# Altium footprint library Connector_Wago.PcbLib: 34 footprints (part 2 of 3)
Each footprint in its own frame and in the unit in brackets; x right, y up, seen from the top. Pads: shape width x height; smd on the part's side, far side on the other; paste and mask are expansions set on the pad; w line width, h text height; cw(c..) or ccw(c..) is an arc to the next point about the centre after c.
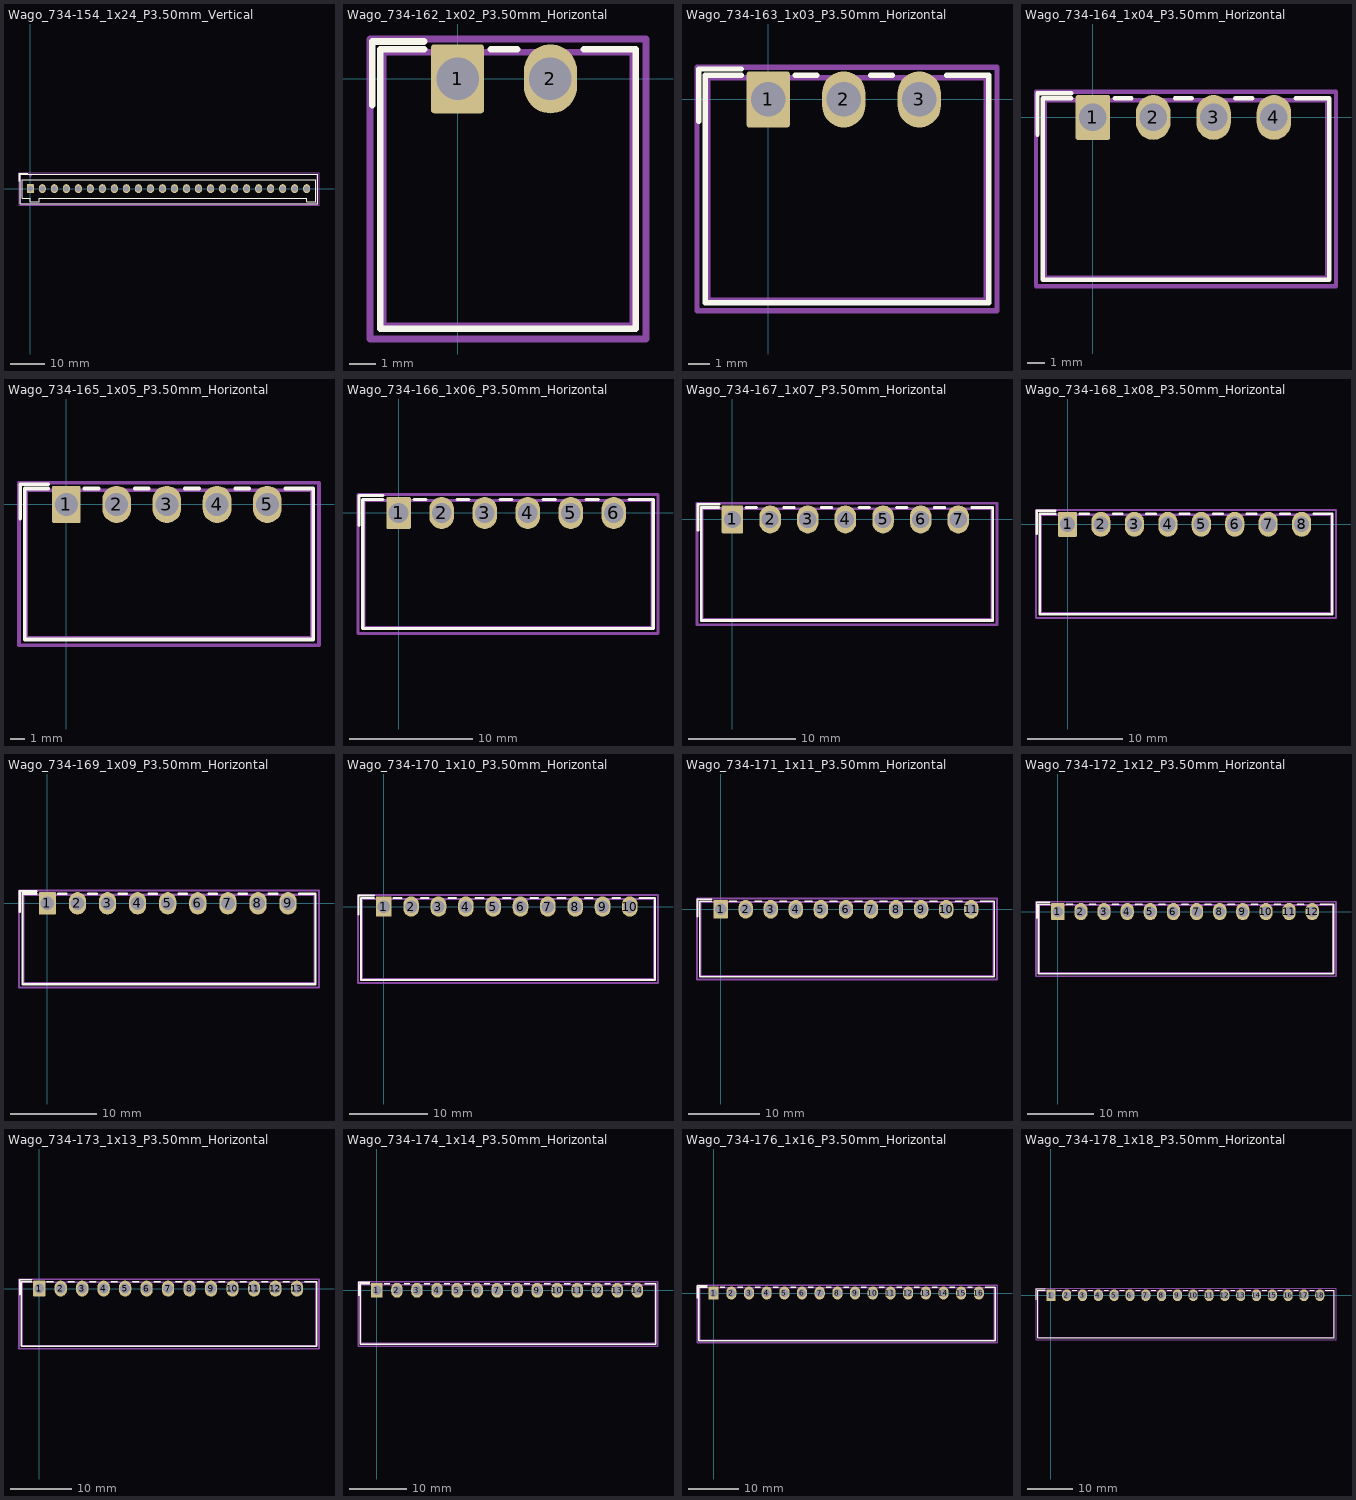
[diagram p1: the footprints below, top view; thin cyan lines are the x and y axes]

## Wago_734-154_1x24_P3.50mm_Vertical [mm]
pads (24):
  rrect12% 2x2.6 hole 1.6: 1(0,0)
  rrect100% 2x2.6 hole 1.6: 2(3.5,0) 3(7,0) 4(10.5,0) 5(14,0) 6(17.5,0) 7(21,0) 8(24.5,0) 9(28,0) 10(31.5,0) 11(35,0) 12(38.5,0) 13(42,0) 14(45.5,0) 15(49,0) 16(52.5,0) 17(56,0) 18(59.5,0) 19(63,0) 20(66.5,0) 21(70,0) 22(73.5,0) 23(77,0) 24(80.5,0)
F.SilkS:
  lines w0.254: -3.21,2.15 -3.21,4.56 -0.8,4.56 ; -2.91,-4.46 83.71,-4.46 83.71,4.26 -2.91,4.26 -2.91,-4.46 ; -2.3,-2.85 0,-2.85 0,-3.85 2.6,-3.85 2.6,-2.85 80.5,-2.85 80.5,-3.85 83.1,-3.85 83.1,2.65 -2.3,2.65 -2.3,-2.85
Top Assembly:
  lines w0.254: -0.5,4.15 0,3.443 0.5,4.15 ; -2.8,-4.35 83.6,-4.35 83.6,4.15 -2.8,4.15 -2.8,-4.35
  text "'.Designator'" at 36.353,-4.49 h1
Top Courtyard:
  lines w0.254: -3.3,-4.85 84.1,-4.85 84.1,4.65 -3.3,4.65 -3.3,-4.85
Top Designator:
  text ".Designator" at 32.782,-0.608 h1.52

## Wago_734-162_1x02_P3.50mm_Horizontal [mm]
pads (2):
  rrect12% 2x2.6 hole 1.6: 1(0,0)
  rrect100% 2x2.6 hole 1.6: 2(3.5,0)
F.SilkS:
  lines w0.254: -3.21,-1 -3.21,1.41 -1.26,1.41 ; -1.26,1.11 -2.91,1.11 -2.91,-9.41 6.71,-9.41 6.71,1.11 4.76,1.11 ; 1.26,1.11 2.24,1.11
Top Assembly:
  lines w0.254: -0.5,1 0,0.293 0.5,1 ; -2.8,-9.3 6.6,-9.3 6.6,1 -2.8,1 -2.8,-9.3
  text "'.Designator'" at -2.147,-9.44 h1
Top Courtyard:
  lines w0.254: -3.3,-9.8 7.1,-9.8 7.1,1.5 -3.3,1.5 -3.3,-9.8
Top Designator:
  text ".Designator" at -5.718,-4.658 h1.52

## Wago_734-163_1x03_P3.50mm_Horizontal [mm]
pads (3):
  rrect12% 2x2.6 hole 1.6: 1(0,0)
  rrect100% 2x2.6 hole 1.6: 2(3.5,0) 3(7,0)
F.SilkS:
  lines w0.254: -3.21,-1 -3.21,1.41 -1.26,1.41 ; -1.26,1.11 -2.91,1.11 -2.91,-9.41 10.21,-9.41 10.21,1.11 8.26,1.11 ; 1.26,1.11 2.24,1.11 ; 4.76,1.11 5.74,1.11
Top Assembly:
  lines w0.254: -0.5,1 0,0.293 0.5,1 ; -2.8,-9.3 10.1,-9.3 10.1,1 -2.8,1 -2.8,-9.3
  text "'.Designator'" at -0.397,-9.44 h1
Top Courtyard:
  lines w0.254: -3.3,-9.8 10.6,-9.8 10.6,1.5 -3.3,1.5 -3.3,-9.8
Top Designator:
  text ".Designator" at -3.968,-4.658 h1.52

## Wago_734-164_1x04_P3.50mm_Horizontal [mm]
pads (4):
  rrect12% 2x2.6 hole 1.6: 1(0,0)
  rrect100% 2x2.6 hole 1.6: 2(3.5,0) 3(7,0) 4(10.5,0)
F.SilkS:
  lines w0.254: -3.21,-1 -3.21,1.41 -1.26,1.41 ; -1.26,1.11 -2.91,1.11 -2.91,-9.41 13.71,-9.41 13.71,1.11 11.76,1.11 ; 1.26,1.11 2.24,1.11 ; 4.76,1.11 5.74,1.11 ; 8.26,1.11 9.24,1.11
Top Assembly:
  lines w0.254: -0.5,1 0,0.293 0.5,1 ; -2.8,-9.3 13.6,-9.3 13.6,1 -2.8,1 -2.8,-9.3
  text "'.Designator'" at 1.353,-9.44 h1
Top Courtyard:
  lines w0.254: -3.3,-9.8 14.1,-9.8 14.1,1.5 -3.3,1.5 -3.3,-9.8
Top Designator:
  text ".Designator" at -2.218,-4.658 h1.52

## Wago_734-165_1x05_P3.50mm_Horizontal [mm]
pads (5):
  rrect12% 2x2.6 hole 1.6: 1(0,0)
  rrect100% 2x2.6 hole 1.6: 2(3.5,0) 3(7,0) 4(10.5,0) 5(14,0)
F.SilkS:
  lines w0.254: -3.21,-1 -3.21,1.41 -1.26,1.41 ; -1.26,1.11 -2.91,1.11 -2.91,-9.41 17.21,-9.41 17.21,1.11 15.26,1.11 ; 1.26,1.11 2.24,1.11 ; 4.76,1.11 5.74,1.11 ; 8.26,1.11 9.24,1.11 ; 11.76,1.11 12.74,1.11
Top Assembly:
  lines w0.254: -0.5,1 0,0.293 0.5,1 ; -2.8,-9.3 17.1,-9.3 17.1,1 -2.8,1 -2.8,-9.3
  text "'.Designator'" at 3.103,-9.44 h1
Top Courtyard:
  lines w0.254: -3.3,-9.8 17.6,-9.8 17.6,1.5 -3.3,1.5 -3.3,-9.8
Top Designator:
  text ".Designator" at -0.468,-4.658 h1.52

## Wago_734-166_1x06_P3.50mm_Horizontal [mm]
pads (6):
  rrect12% 2x2.6 hole 1.6: 1(0,0)
  rrect100% 2x2.6 hole 1.6: 2(3.5,0) 3(7,0) 4(10.5,0) 5(14,0) 6(17.5,0)
F.SilkS:
  lines w0.254: -3.21,-1 -3.21,1.41 -1.26,1.41 ; -1.26,1.11 -2.91,1.11 -2.91,-9.41 20.71,-9.41 20.71,1.11 18.76,1.11 ; 1.26,1.11 2.24,1.11 ; 4.76,1.11 5.74,1.11 ; 8.26,1.11 9.24,1.11 ; 11.76,1.11 12.74,1.11 ; 15.26,1.11 16.24,1.11
Top Assembly:
  lines w0.254: -0.5,1 0,0.293 0.5,1 ; -2.8,-9.3 20.6,-9.3 20.6,1 -2.8,1 -2.8,-9.3
  text "'.Designator'" at 4.853,-9.44 h1
Top Courtyard:
  lines w0.254: -3.3,-9.8 21.1,-9.8 21.1,1.5 -3.3,1.5 -3.3,-9.8
Top Designator:
  text ".Designator" at 1.282,-4.658 h1.52

## Wago_734-167_1x07_P3.50mm_Horizontal [mm]
pads (7):
  rrect12% 2x2.6 hole 1.6: 1(0,0)
  rrect100% 2x2.6 hole 1.6: 2(3.5,0) 3(7,0) 4(10.5,0) 5(14,0) 6(17.5,0) 7(21,0)
F.SilkS:
  lines w0.254: -3.21,-1 -3.21,1.41 -1.26,1.41 ; -1.26,1.11 -2.91,1.11 -2.91,-9.41 24.21,-9.41 24.21,1.11 22.26,1.11 ; 1.26,1.11 2.24,1.11 ; 4.76,1.11 5.74,1.11 ; 8.26,1.11 9.24,1.11 ; 11.76,1.11 12.74,1.11 ; 15.26,1.11 16.24,1.11 ; 18.76,1.11 19.74,1.11
Top Assembly:
  lines w0.254: -0.5,1 0,0.293 0.5,1 ; -2.8,-9.3 24.1,-9.3 24.1,1 -2.8,1 -2.8,-9.3
  text "'.Designator'" at 6.603,-9.44 h1
Top Courtyard:
  lines w0.254: -3.3,-9.8 24.6,-9.8 24.6,1.5 -3.3,1.5 -3.3,-9.8
Top Designator:
  text ".Designator" at 3.032,-4.658 h1.52

## Wago_734-168_1x08_P3.50mm_Horizontal [mm]
pads (8):
  rrect12% 2x2.6 hole 1.6: 1(0,0)
  rrect100% 2x2.6 hole 1.6: 2(3.5,0) 3(7,0) 4(10.5,0) 5(14,0) 6(17.5,0) 7(21,0) 8(24.5,0)
F.SilkS:
  lines w0.254: -3.21,-1 -3.21,1.41 -1.26,1.41 ; -1.26,1.11 -2.91,1.11 -2.91,-9.41 27.71,-9.41 27.71,1.11 25.76,1.11 ; 1.26,1.11 2.24,1.11 ; 4.76,1.11 5.74,1.11 ; 8.26,1.11 9.24,1.11 ; 11.76,1.11 12.74,1.11 ; 15.26,1.11 16.24,1.11 ; 18.76,1.11 19.74,1.11 ; 22.26,1.11 23.24,1.11
Top Assembly:
  lines w0.254: -0.5,1 0,0.293 0.5,1 ; -2.8,-9.3 27.6,-9.3 27.6,1 -2.8,1 -2.8,-9.3
  text "'.Designator'" at 8.353,-9.44 h1
Top Courtyard:
  lines w0.254: -3.3,-9.8 28.1,-9.8 28.1,1.5 -3.3,1.5 -3.3,-9.8
Top Designator:
  text ".Designator" at 4.782,-4.658 h1.52

## Wago_734-169_1x09_P3.50mm_Horizontal [mm]
pads (9):
  rrect12% 2x2.6 hole 1.6: 1(0,0)
  rrect100% 2x2.6 hole 1.6: 2(3.5,0) 3(7,0) 4(10.5,0) 5(14,0) 6(17.5,0) 7(21,0) 8(24.5,0) 9(28,0)
F.SilkS:
  lines w0.254: -3.21,-1 -3.21,1.41 -1.26,1.41 ; -1.26,1.11 -2.91,1.11 -2.91,-9.41 31.21,-9.41 31.21,1.11 29.26,1.11 ; 1.26,1.11 2.24,1.11 ; 4.76,1.11 5.74,1.11 ; 8.26,1.11 9.24,1.11 ; 11.76,1.11 12.74,1.11 ; 15.26,1.11 16.24,1.11 ; 18.76,1.11 19.74,1.11 ; 22.26,1.11 23.24,1.11 ; 25.76,1.11 26.74,1.11
Top Assembly:
  lines w0.254: -0.5,1 0,0.293 0.5,1 ; -2.8,-9.3 31.1,-9.3 31.1,1 -2.8,1 -2.8,-9.3
  text "'.Designator'" at 10.103,-9.44 h1
Top Courtyard:
  lines w0.254: -3.3,-9.8 31.6,-9.8 31.6,1.5 -3.3,1.5 -3.3,-9.8
Top Designator:
  text ".Designator" at 6.532,-4.658 h1.52

## Wago_734-170_1x10_P3.50mm_Horizontal [mm]
pads (10):
  rrect12% 2x2.6 hole 1.6: 1(0,0)
  rrect100% 2x2.6 hole 1.6: 2(3.5,0) 3(7,0) 4(10.5,0) 5(14,0) 6(17.5,0) 7(21,0) 8(24.5,0) 9(28,0) 10(31.5,0)
F.SilkS:
  lines w0.254: -3.21,-1 -3.21,1.41 -1.26,1.41 ; -1.26,1.11 -2.91,1.11 -2.91,-9.41 34.71,-9.41 34.71,1.11 32.76,1.11 ; 1.26,1.11 2.24,1.11 ; 4.76,1.11 5.74,1.11 ; 8.26,1.11 9.24,1.11 ; 11.76,1.11 12.74,1.11 ; 15.26,1.11 16.24,1.11 ; 18.76,1.11 19.74,1.11 ; 22.26,1.11 23.24,1.11 ; 25.76,1.11 26.74,1.11 ; 29.26,1.11 30.24,1.11
Top Assembly:
  lines w0.254: -0.5,1 0,0.293 0.5,1 ; -2.8,-9.3 34.6,-9.3 34.6,1 -2.8,1 -2.8,-9.3
  text "'.Designator'" at 11.853,-9.44 h1
Top Courtyard:
  lines w0.254: -3.3,-9.8 35.1,-9.8 35.1,1.5 -3.3,1.5 -3.3,-9.8
Top Designator:
  text ".Designator" at 8.282,-4.658 h1.52

## Wago_734-171_1x11_P3.50mm_Horizontal [mm]
pads (11):
  rrect12% 2x2.6 hole 1.6: 1(0,0)
  rrect100% 2x2.6 hole 1.6: 2(3.5,0) 3(7,0) 4(10.5,0) 5(14,0) 6(17.5,0) 7(21,0) 8(24.5,0) 9(28,0) 10(31.5,0) 11(35,0)
F.SilkS:
  lines w0.254: -3.21,-1 -3.21,1.41 -1.26,1.41 ; -1.26,1.11 -2.91,1.11 -2.91,-9.41 38.21,-9.41 38.21,1.11 36.26,1.11 ; 1.26,1.11 2.24,1.11 ; 4.76,1.11 5.74,1.11 ; 8.26,1.11 9.24,1.11 ; 11.76,1.11 12.74,1.11 ; 15.26,1.11 16.24,1.11 ; 18.76,1.11 19.74,1.11 ; 22.26,1.11 23.24,1.11 ; 25.76,1.11 26.74,1.11 ; 29.26,1.11 30.24,1.11 ; 32.76,1.11 33.74,1.11
Top Assembly:
  lines w0.254: -0.5,1 0,0.293 0.5,1 ; -2.8,-9.3 38.1,-9.3 38.1,1 -2.8,1 -2.8,-9.3
  text "'.Designator'" at 13.603,-9.44 h1
Top Courtyard:
  lines w0.254: -3.3,-9.8 38.6,-9.8 38.6,1.5 -3.3,1.5 -3.3,-9.8
Top Designator:
  text ".Designator" at 10.032,-4.658 h1.52

## Wago_734-172_1x12_P3.50mm_Horizontal [mm]
pads (12):
  rrect12% 2x2.6 hole 1.6: 1(0,0)
  rrect100% 2x2.6 hole 1.6: 2(3.5,0) 3(7,0) 4(10.5,0) 5(14,0) 6(17.5,0) 7(21,0) 8(24.5,0) 9(28,0) 10(31.5,0) 11(35,0) 12(38.5,0)
F.SilkS:
  lines w0.254: -3.21,-1 -3.21,1.41 -1.26,1.41 ; -1.26,1.11 -2.91,1.11 -2.91,-9.41 41.71,-9.41 41.71,1.11 39.76,1.11 ; 1.26,1.11 2.24,1.11 ; 4.76,1.11 5.74,1.11 ; 8.26,1.11 9.24,1.11 ; 11.76,1.11 12.74,1.11 ; 15.26,1.11 16.24,1.11 ; 18.76,1.11 19.74,1.11 ; 22.26,1.11 23.24,1.11 ; 25.76,1.11 26.74,1.11 ; 29.26,1.11 30.24,1.11 ; 32.76,1.11 33.74,1.11 ; 36.26,1.11 37.24,1.11
Top Assembly:
  lines w0.254: -0.5,1 0,0.293 0.5,1 ; -2.8,-9.3 41.6,-9.3 41.6,1 -2.8,1 -2.8,-9.3
  text "'.Designator'" at 15.353,-9.44 h1
Top Courtyard:
  lines w0.254: -3.3,-9.8 42.1,-9.8 42.1,1.5 -3.3,1.5 -3.3,-9.8
Top Designator:
  text ".Designator" at 11.782,-4.658 h1.52

## Wago_734-173_1x13_P3.50mm_Horizontal [mm]
pads (13):
  rrect12% 2x2.6 hole 1.6: 1(0,0)
  rrect100% 2x2.6 hole 1.6: 2(3.5,0) 3(7,0) 4(10.5,0) 5(14,0) 6(17.5,0) 7(21,0) 8(24.5,0) 9(28,0) 10(31.5,0) 11(35,0) 12(38.5,0) 13(42,0)
F.SilkS:
  lines w0.254: -3.21,-1 -3.21,1.41 -1.26,1.41 ; -1.26,1.11 -2.91,1.11 -2.91,-9.41 45.21,-9.41 45.21,1.11 43.26,1.11 ; 1.26,1.11 2.24,1.11 ; 4.76,1.11 5.74,1.11 ; 8.26,1.11 9.24,1.11 ; 11.76,1.11 12.74,1.11 ; 15.26,1.11 16.24,1.11 ; 18.76,1.11 19.74,1.11 ; 22.26,1.11 23.24,1.11 ; 25.76,1.11 26.74,1.11 ; 29.26,1.11 30.24,1.11 ; 32.76,1.11 33.74,1.11 ; 36.26,1.11 37.24,1.11 ; 39.76,1.11 40.74,1.11
Top Assembly:
  lines w0.254: -0.5,1 0,0.293 0.5,1 ; -2.8,-9.3 45.1,-9.3 45.1,1 -2.8,1 -2.8,-9.3
  text "'.Designator'" at 17.103,-9.44 h1
Top Courtyard:
  lines w0.254: -3.3,-9.8 45.6,-9.8 45.6,1.5 -3.3,1.5 -3.3,-9.8
Top Designator:
  text ".Designator" at 13.532,-4.658 h1.52

## Wago_734-174_1x14_P3.50mm_Horizontal [mm]
pads (14):
  rrect12% 2x2.6 hole 1.6: 1(0,0)
  rrect100% 2x2.6 hole 1.6: 2(3.5,0) 3(7,0) 4(10.5,0) 5(14,0) 6(17.5,0) 7(21,0) 8(24.5,0) 9(28,0) 10(31.5,0) 11(35,0) 12(38.5,0) 13(42,0) 14(45.5,0)
F.SilkS:
  lines w0.254: -3.21,-1 -3.21,1.41 -1.26,1.41 ; -1.26,1.11 -2.91,1.11 -2.91,-9.41 48.71,-9.41 48.71,1.11 46.76,1.11 ; 1.26,1.11 2.24,1.11 ; 4.76,1.11 5.74,1.11 ; 8.26,1.11 9.24,1.11 ; 11.76,1.11 12.74,1.11 ; 15.26,1.11 16.24,1.11 ; 18.76,1.11 19.74,1.11 ; 22.26,1.11 23.24,1.11 ; 25.76,1.11 26.74,1.11 ; 29.26,1.11 30.24,1.11 ; 32.76,1.11 33.74,1.11 ; 36.26,1.11 37.24,1.11 ; 39.76,1.11 40.74,1.11 ; 43.26,1.11 44.24,1.11
Top Assembly:
  lines w0.254: -0.5,1 0,0.293 0.5,1 ; -2.8,-9.3 48.6,-9.3 48.6,1 -2.8,1 -2.8,-9.3
  text "'.Designator'" at 18.853,-9.44 h1
Top Courtyard:
  lines w0.254: -3.3,-9.8 49.1,-9.8 49.1,1.5 -3.3,1.5 -3.3,-9.8
Top Designator:
  text ".Designator" at 15.282,-4.658 h1.52

## Wago_734-176_1x16_P3.50mm_Horizontal [mm]
pads (16):
  rrect12% 2x2.6 hole 1.6: 1(0,0)
  rrect100% 2x2.6 hole 1.6: 2(3.5,0) 3(7,0) 4(10.5,0) 5(14,0) 6(17.5,0) 7(21,0) 8(24.5,0) 9(28,0) 10(31.5,0) 11(35,0) 12(38.5,0) 13(42,0) 14(45.5,0) 15(49,0) 16(52.5,0)
F.SilkS:
  lines w0.254: -3.21,-1 -3.21,1.41 -1.26,1.41 ; -1.26,1.11 -2.91,1.11 -2.91,-9.41 55.71,-9.41 55.71,1.11 53.76,1.11 ; 1.26,1.11 2.24,1.11 ; 4.76,1.11 5.74,1.11 ; 8.26,1.11 9.24,1.11 ; 11.76,1.11 12.74,1.11 ; 15.26,1.11 16.24,1.11 ; 18.76,1.11 19.74,1.11 ; 22.26,1.11 23.24,1.11 ; 25.76,1.11 26.74,1.11 ; 29.26,1.11 30.24,1.11 ; 32.76,1.11 33.74,1.11 ; 36.26,1.11 37.24,1.11 ; 39.76,1.11 40.74,1.11 ; 43.26,1.11 44.24,1.11 ; 46.76,1.11 47.74,1.11 ; 50.26,1.11 51.24,1.11
Top Assembly:
  lines w0.254: -0.5,1 0,0.293 0.5,1 ; -2.8,-9.3 55.6,-9.3 55.6,1 -2.8,1 -2.8,-9.3
  text "'.Designator'" at 22.353,-9.44 h1
Top Courtyard:
  lines w0.254: -3.3,-9.8 56.1,-9.8 56.1,1.5 -3.3,1.5 -3.3,-9.8
Top Designator:
  text ".Designator" at 18.782,-4.658 h1.52

## Wago_734-178_1x18_P3.50mm_Horizontal [mm]
pads (18):
  rrect12% 2x2.6 hole 1.6: 1(0,0)
  rrect100% 2x2.6 hole 1.6: 2(3.5,0) 3(7,0) 4(10.5,0) 5(14,0) 6(17.5,0) 7(21,0) 8(24.5,0) 9(28,0) 10(31.5,0) 11(35,0) 12(38.5,0) 13(42,0) 14(45.5,0) 15(49,0) 16(52.5,0) 17(56,0) 18(59.5,0)
F.SilkS:
  lines w0.254: -3.21,-1 -3.21,1.41 -1.26,1.41 ; -1.26,1.11 -2.91,1.11 -2.91,-9.41 62.71,-9.41 62.71,1.11 60.76,1.11 ; 1.26,1.11 2.24,1.11 ; 4.76,1.11 5.74,1.11 ; 8.26,1.11 9.24,1.11 ; 11.76,1.11 12.74,1.11 ; 15.26,1.11 16.24,1.11 ; 18.76,1.11 19.74,1.11 ; 22.26,1.11 23.24,1.11 ; 25.76,1.11 26.74,1.11 ; 29.26,1.11 30.24,1.11 ; 32.76,1.11 33.74,1.11 ; 36.26,1.11 37.24,1.11 ; 39.76,1.11 40.74,1.11 ; 43.26,1.11 44.24,1.11 ; 46.76,1.11 47.74,1.11 ; 50.26,1.11 51.24,1.11 ; 53.76,1.11 54.74,1.11 ; 57.26,1.11 58.24,1.11
Top Assembly:
  lines w0.254: -0.5,1 0,0.293 0.5,1 ; -2.8,-9.3 62.6,-9.3 62.6,1 -2.8,1 -2.8,-9.3
  text "'.Designator'" at 25.853,-9.44 h1
Top Courtyard:
  lines w0.254: -3.3,-9.8 63.1,-9.8 63.1,1.5 -3.3,1.5 -3.3,-9.8
Top Designator:
  text ".Designator" at 22.282,-4.658 h1.52